# Altium schematic symbol library MDBT53_SCHLIB_230719.SchLib: 1 symbol
Pins are listed as number, name and electrical type; pins without a type are passive.

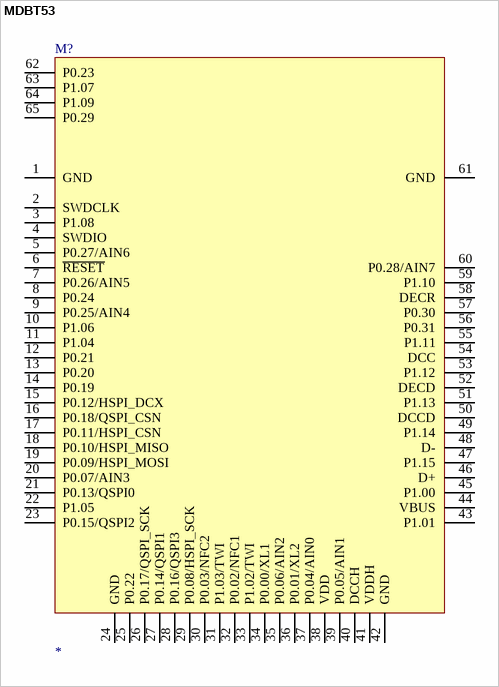
[diagram p0: symbol MDBT53]

## MDBT53
designator M?
MDBT53
footprint MDBT53-U
footprint MDBT53
pins: 1 GND, 2 SWDCLK, 3 P1.08, 4 SWDIO, 5 P0.27/AIN6, 6 ~{RESET}, 7 P0.26/AIN5, 8 P0.24, 9 P0.25/AIN4, 10 P1.06, 11 P1.04, 12 P0.21, 13 P0.20, 14 P0.19, 15 P0.12/HSPI_DCX, 16 P0.18/QSPI_CSN, 17 P0.11/HSPI_CSN, 18 P0.10/HSPI_MISO, 19 P0.09/HSPI_MOSI, 20 P0.07/AIN3, 21 P0.13/QSPI0, 22 P1.05, 23 P0.15/QSPI2, 24 GND, 25 P0.22, 26 P0.17/QSPI_SCK, 27 P0.14/QSPI1, 28 P0.16/QSPI3, 29 P0.08/HSPI_SCK, 30 P0.03/NFC2, 31 P1.03/TWI, 32 P0.02/NFC1, 33 P1.02/TWI, 34 P0.00/XL1, 35 P0.06/AIN2, 36 P0.01/XL2, 37 P0.04/AIN0, 38 VDD, 39 P0.05/AIN1, 40 DCCH, 41 VDDH, 42 GND, 43 P1.01, 44 VBUS, 45 P1.00, 46 D+, 47 P1.15, 48 D-, 49 P1.14, 50 DCCD, 51 P1.13, 52 DECD, 53 P1.12, 54 DCC, 55 P1.11, 56 P0.31, 57 P0.30, 58 DECR, 59 P1.10, 60 P0.28/AIN7, 61 GND, 62 P0.23, 63 P1.07, 64 P1.09, 65 P0.29